# Altium schematic symbol library WR-DSUB_Male.SchLib: 32 symbols
Pins are listed as number, name and electrical type; pins without a type are passive.

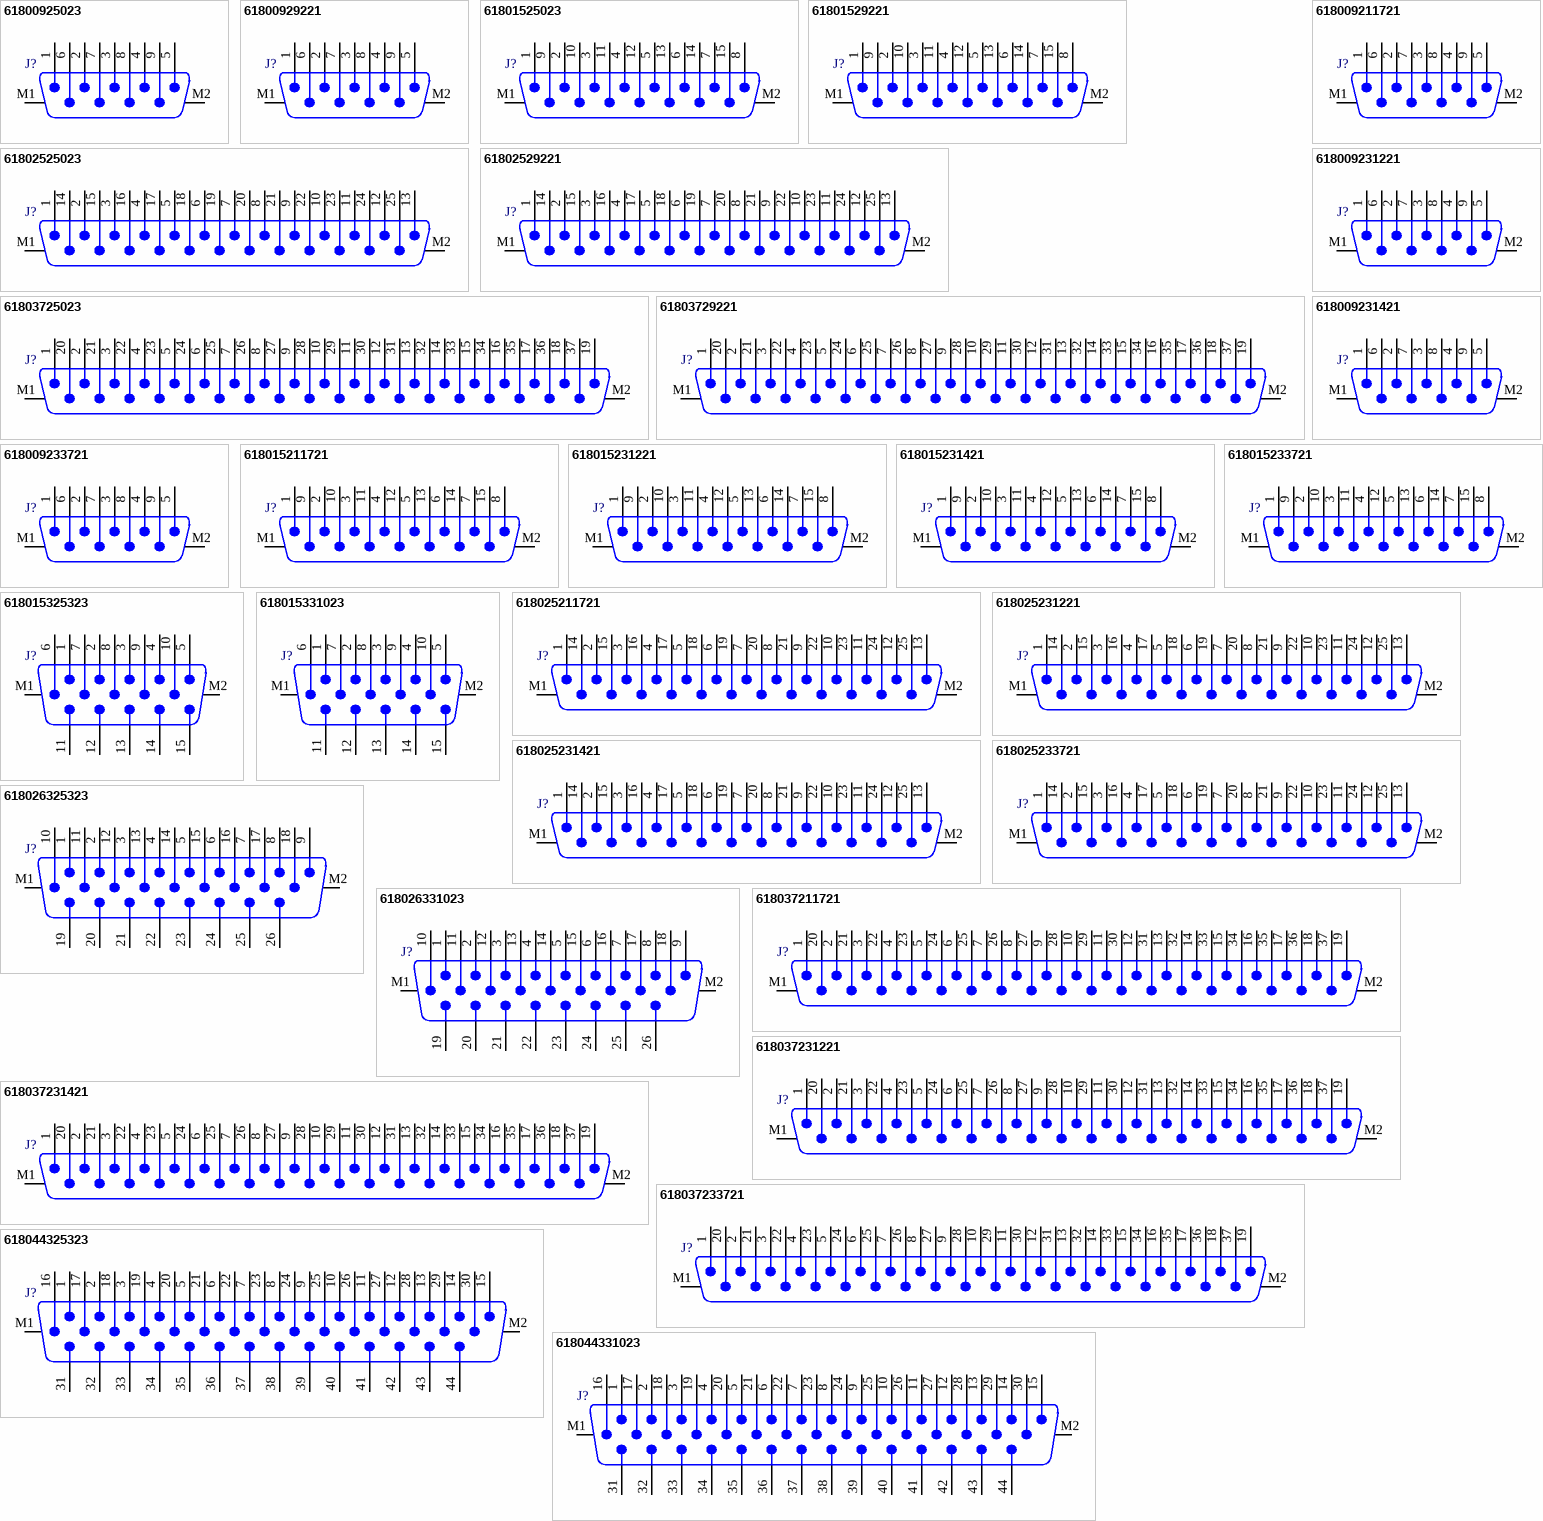
[diagram p0: symbols 61800925023 to 618044331023]

## 61800925023
designator J?
Male PCB Connector WR-DSUB, Vertical, 9 pins; Part Number: 61800925023; Pin Number: 9; Rated Current: 3 A; Contact Resistance: 30 mOhm; Working Voltage: 125 VAC; ComponentLink1Description: Manufacturer; ComponentLink1URL: http://www.we-online.de; ComponentLink2Description: Datasheet; ComponentLink2URL: https://katalog.we-online.de/em/datasheet/6180xx25023.pdf; Published Date: September 2018; Publisher: Wurth Elektronik; Orientation: Vertical; Operating Temperature: -40 to 85 degC; Mounting Technology: THT; Gender: Male; Packaging: Tray
footprint 61800925023
pins: 1, 2, 3, 4, 5, 6, 7, 8, 9, M1, M2

## 61800929221
designator J?
Male PCB Connector with Hex Screw WR-DSUB, Vertical, 9 pins; Part Number: 61800929221; Pin Number: 9; Rated Current: 3 A; Contact Resistance: 30 mOhm; Working Voltage: 125 VAC; ComponentLink1Description: Manufacturer; ComponentLink1URL: http://www.we-online.de; ComponentLink2Description: Datasheet; ComponentLink2URL: https://katalog.we-online.de/em/datasheet/6180xx29221.pdf; Published Date: September 2018; Publisher: Wurth Elektronik; Orientation: Vertical; Operating Temperature: -40 to 85 degC; Mounting Technology: THT; Gender: Male; Packaging: Tray
footprint 61800929221
pins: 1, 2, 3, 4, 5, 6, 7, 8, 9, M1, M2

## 61801525023
designator J?
Male PCB Connector WR-DSUB, Vertical, 15 pins; Part Number: 61801525023; Pin Number: 15; Rated Current: 3 A; Contact Resistance: 30 mOhm; Working Voltage: 125 VAC; ComponentLink1Description: Manufacturer; ComponentLink1URL: http://www.we-online.de; ComponentLink2Description: Datasheet; ComponentLink2URL: https://katalog.we-online.de/em/datasheet/6180xx25023.pdf; Published Date: September 2018; Publisher: Wurth Elektronik; Orientation: Vertical; Operating Temperature: -40 to 85 degC; Mounting Technology: THT; Gender: Male; Packaging: Tray
footprint 61801525023
pins: 1, 2, 3, 4, 5, 6, 7, 8, 9, 10, 11, 12, 13, 14, 15, M1, M2

## 61801529221
designator J?
Male PCB Connector with Hex Screw WR-DSUB, Vertical, 15 pins; Part Number: 61801529221; Pin Number: 15; Rated Current: 3 A; Contact Resistance: 30 mOhm; Working Voltage: 125 VAC; ComponentLink1Description: Manufacturer; ComponentLink1URL: http://www.we-online.de; ComponentLink2Description: Datasheet; ComponentLink2URL: https://katalog.we-online.de/em/datasheet/6180xx29221.pdf; Published Date: September 2018; Publisher: Wurth Elektronik; Orientation: Vertical; Operating Temperature: -40 to 85 degC; Mounting Technology: THT; Gender: Male; Packaging: Tray
footprint 61801529221
pins: 1, 2, 3, 4, 5, 6, 7, 8, 9, 10, 11, 12, 13, 14, 15, M1, M2

## 61802525023
designator J?
Male PCB Connector WR-DSUB, Vertical, 25 pins; Part Number: 61802525023; Pin Number: 25; Rated Current: 3 A; Contact Resistance: 30 mOhm; Working Voltage: 125 VAC; ComponentLink1Description: Manufacturer; ComponentLink1URL: http://www.we-online.de; ComponentLink2Description: Datasheet; ComponentLink2URL: https://katalog.we-online.de/em/datasheet/6180xx25023.pdf; Published Date: September 2018; Publisher: Wurth Elektronik; Orientation: Vertical; Operating Temperature: -40 to 85 degC; Mounting Technology: THT; Gender: Male; Packaging: Tray
footprint 61802525023
pins: 1, 2, 3, 4, 5, 6, 7, 8, 9, 10, 11, 12, 13, 14, 15, 16, 17, 18, 19, 20, 21, 22, 23, 24, 25, M1, M2

## 61802529221
designator J?
Male PCB Connector with Hex Screw WR-DSUB, Vertical, 25 pins; Part Number: 61802529221; Pin Number: 25; Rated Current: 3 A; Contact Resistance: 30 mOhm; Working Voltage: 125 VAC; ComponentLink1Description: Manufacturer; ComponentLink1URL: http://www.we-online.de; ComponentLink2Description: Datasheet; ComponentLink2URL: https://katalog.we-online.de/em/datasheet/6180xx29221.pdf; Published Date: September 2018; Publisher: Wurth Elektronik; Orientation: Vertical; Operating Temperature: -40 to 85 degC; Mounting Technology: THT; Gender: Male; Packaging: Tray
footprint 61802529221
pins: 1, 2, 3, 4, 5, 6, 7, 8, 9, 10, 11, 12, 13, 14, 15, 16, 17, 18, 19, 20, 21, 22, 23, 24, 25, M1, M2

## 61803725023
designator J?
Male PCB Connector WR-DSUB, Vertical, 37 pins; Part Number: 61803725023; Pin Number: 37; Rated Current: 3 A; Contact Resistance: 30 mOhm; Working Voltage: 125 VAC; ComponentLink1Description: Manufacturer; ComponentLink1URL: http://www.we-online.de; ComponentLink2Description: Datasheet; ComponentLink2URL: https://katalog.we-online.de/em/datasheet/6180xx25023.pdf; Published Date: September 2018; Publisher: Wurth Elektronik; Orientation: Vertical; Operating Temperature: -40 to 85 degC; Mounting Technology: THT; Gender: Male; Packaging: Tray
footprint 61803725023
pins: 1, 2, 3, 4, 5, 6, 7, 8, 9, 10, 11, 12, 13, 14, 15, 16, 17, 18, 19, 20, 21, 22, 23, 24, 25, 26, 27, 28, 29, 30, 31, 32, 33, 34, 35, 36, 37, M1, M2

## 61803729221
designator J?
Male PCB Connector with Hex Screw WR-DSUB, Vertical, 37 pins; Part Number: 61803729221; Pin Number: 37; Rated Current: 3 A; Contact Resistance: 30 mOhm; Working Voltage: 125 VAC; ComponentLink1Description: Manufacturer; ComponentLink1URL: http://www.we-online.de; ComponentLink2Description: Datasheet; ComponentLink2URL: https://katalog.we-online.de/em/datasheet/6180xx29221.pdf; Published Date: September 2018; Publisher: Wurth Elektronik; Orientation: Vertical; Operating Temperature: -40 to 85 degC; Mounting Technology: THT; Gender: Male; Packaging: Tray
footprint 61803729221
pins: 1, 2, 3, 4, 5, 6, 7, 8, 9, 10, 11, 12, 13, 14, 15, 16, 17, 18, 19, 20, 21, 22, 23, 24, 25, 26, 27, 28, 29, 30, 31, 32, 33, 34, 35, 36, 37, M1, M2

## 618009211721
designator J?
Male PCB Connector without Hex Screw WR-DSUB, 8.08 mm, Angled, 9 pins; Part Number: 618009211721; Pin Number: 9; Rated Current: 3 A; Contact Resistance: 30 mOhm; Working Voltage: 125 VAC; ComponentLink1Description: Manufacturer; ComponentLink1URL: http://www.we-online.de; ComponentLink2Description: Datasheet; ComponentLink2URL: https://katalog.we-online.de/em/datasheet/6180xx211721.pdf; Published Date: September 2018; Publisher: Wurth Elektronik; Orientation: Angled; Operating Temperature: -40 to 85 degC; Mounting Technology: THT; Gender: Male; Packaging: Tray
footprint 618009211721
pins: 1, 2, 3, 4, 5, 6, 7, 8, 9, M1, M2

## 618009231221
designator J?
Male PCB Connector with Hex Screw WR-DSUB, 8.08 mm, Angled, 9 pins; Part Number: 618009231221; Pin Number: 9; Rated Current: 3 A; Contact Resistance: 30 mOhm; Working Voltage: 125 VAC; ComponentLink1Description: Manufacturer; ComponentLink1URL: http://www.we-online.de; ComponentLink2Description: Datasheet; ComponentLink2URL: https://katalog.we-online.de/em/datasheet/6180xx231221.pdf; Published Date: September 2018; Publisher: Wurth Elektronik; Orientation: Angled; Operating Temperature: -40 to 85 degC; Mounting Technology: THT; Gender: Male; Packaging: Tray
footprint 618009231221
pins: 1, 2, 3, 4, 5, 6, 7, 8, 9, M1, M2

## 618009231421
designator J?
Male PCB Connector with Hex Screw WR-DSUB, 10.30 mm, Angled, 9 pins; Part Number: 618009231421; Pin Number: 9; Rated Current: 3 A; Contact Resistance: 30 mOhm; Working Voltage: 125 VAC; ComponentLink1Description: Manufacturer; ComponentLink1URL: http://www.we-online.de; ComponentLink2Description: Datasheet; ComponentLink2URL: https://katalog.we-online.de/em/datasheet/6180xx231421.pdf; Published Date: September 2018; Publisher: Wurth Elektronik; Orientation: Angled; Operating Temperature: -40 to 85 degC; Mounting Technology: THT; Gender: Male; Packaging: Tray
footprint 618009231421
pins: 1, 2, 3, 4, 5, 6, 7, 8, 9, M1, M2

## 618009233721
designator J?
Male PCB Connector without Hex Screw WR-DSUB, 10.30 mm, Angled, 9 pins; Part Number: 618009233721; Pin Number: 9; Rated Current: 3 A; Contact Resistance: 30 mOhm; Working Voltage: 125 VAC; ComponentLink1Description: Manufacturer; ComponentLink1URL: http://www.we-online.de; ComponentLink2Description: Datasheet; ComponentLink2URL: https://katalog.we-online.de/em/datasheet/6180xx233721.pdf; Published Date: September 2018; Publisher: Wurth Elektronik; Orientation: Angled; Operating Temperature: -40 to 85 degC; Mounting Technology: THT; Gender: Male; Packaging: Tray
footprint 618009233721
pins: 1, 2, 3, 4, 5, 6, 7, 8, 9, M1, M2

## 618015211721
designator J?
Male PCB Connector without Hex Screw WR-DSUB, 8.08 mm, Angled, 15 pins; Part Number: 618015211721; Pin Number: 15; Rated Current: 3 A; Contact Resistance: 30 mOhm; Working Voltage: 125 VAC; ComponentLink1Description: Manufacturer; ComponentLink1URL: http://www.we-online.de; ComponentLink2Description: Datasheet; ComponentLink2URL: https://katalog.we-online.de/em/datasheet/6180xx211721.pdf; Published Date: September 2018; Publisher: Wurth Elektronik; Orientation: Angled; Operating Temperature: -40 to 85 degC; Mounting Technology: THT; Gender: Male; Packaging: Tray
footprint 618015211721
pins: 1, 2, 3, 4, 5, 6, 7, 8, 9, 10, 11, 12, 13, 14, 15, M1, M2

## 618015231221
designator J?
Male PCB Connector with Hex Screw WR-DSUB, 8.08 mm, Angled, 15 pins; Part Number: 618015231221; Pin Number: 15; Rated Current: 3 A; Contact Resistance: 30 mOhm; Working Voltage: 125 VAC; ComponentLink1Description: Manufacturer; ComponentLink1URL: http://www.we-online.de; ComponentLink2Description: Datasheet; ComponentLink2URL: https://katalog.we-online.de/em/datasheet/6180xx231221.pdf; Published Date: September 2018; Publisher: Wurth Elektronik; Orientation: Angled; Operating Temperature: -40 to 85 degC; Mounting Technology: THT; Gender: Male; Packaging: Tray
footprint 618015231221
pins: 1, 2, 3, 4, 5, 6, 7, 8, 9, 10, 11, 12, 13, 14, 15, M1, M2

## 618015231421
designator J?
Male PCB Connector with Hex Screw WR-DSUB, 10.30 mm, Angled, 15 pins; Part Number: 618015231421; Pin Number: 15; Rated Current: 3 A; Contact Resistance: 30 mOhm; Working Voltage: 125 VAC; ComponentLink1Description: Manufacturer; ComponentLink1URL: http://www.we-online.de; ComponentLink2Description: Datasheet; ComponentLink2URL: https://katalog.we-online.de/em/datasheet/6180xx231421.pdf; Published Date: September 2018; Publisher: Wurth Elektronik; Orientation: Angled; Operating Temperature: -40 to 85 degC; Mounting Technology: THT; Gender: Male; Packaging: Tray
footprint 618015231421
pins: 1, 2, 3, 4, 5, 6, 7, 8, 9, 10, 11, 12, 13, 14, 15, M1, M2

## 618015233721
designator J?
Male PCB Connector without Hex Screw WR-DSUB, 10.30 mm, Angled, 15 pins; Part Number: 618015233721; Pin Number: 15; Rated Current: 3 A; Contact Resistance: 30 mOhm; Working Voltage: 125 VAC; ComponentLink1Description: Manufacturer; ComponentLink1URL: http://www.we-online.de; ComponentLink2Description: Datasheet; ComponentLink2URL: https://katalog.we-online.de/em/datasheet/6180xx233721.pdf; Published Date: September 2018; Publisher: Wurth Elektronik; Orientation: Angled; Operating Temperature: -40 to 85 degC; Mounting Technology: THT; Gender: Male; Packaging: Tray
footprint 618015233721
pins: 1, 2, 3, 4, 5, 6, 7, 8, 9, 10, 11, 12, 13, 14, 15, M1, M2

## 618015325323
designator J?
Male High Density PCB Connector without Hex Screw WR-DSUB, Angled, 15 pins; Part Number: 618015325323; Pin Number: 15; Rated Current: 3 A; Contact Resistance: 30 mOhm; Working Voltage: 60 VAC; ComponentLink1Description: Manufacturer; ComponentLink1URL: http://www.we-online.de; ComponentLink2Description: Datasheet; ComponentLink2URL: https://katalog.we-online.de/em/datasheet/6180xx325323.pdf; Published Date: September 2018; Publisher: Wurth Elektronik; Orientation: Angled; Operating Temperature: -40 to 85 degC; Mounting Technology: THT; Gender: Male; Packaging: Tray
footprint 618015325323
pins: 1, 2, 3, 4, 5, 6, 7, 8, 9, 10, 11, 12, 13, 14, 15, M1, M2

## 618015331023
designator J?
Male High Density PCB Connector with Hex Screw WR-DSUB, Angled, 15 pins; Part Number: 618015331023; Pin Number: 15; Rated Current: 3 A; Contact Resistance: 30 mOhm; Working Voltage: 60 VAC; ComponentLink1Description: Manufacturer; ComponentLink1URL: http://www.we-online.de; ComponentLink2Description: Datasheet; ComponentLink2URL: https://katalog.we-online.de/em/datasheet/6180xx331023.pdf; Published Date: September 2018; Publisher: Wurth Elektronik; Orientation: Angled; Operating Temperature: -40 to 85 degC; Mounting Technology: THT; Gender: Male; Packaging: Tray
footprint 618015331023
pins: 1, 2, 3, 4, 5, 6, 7, 8, 9, 10, 11, 12, 13, 14, 15, M1, M2

## 618025211721
designator J?
Male PCB Connector without Hex Screw WR-DSUB, 8.08 mm, Angled, 25 pins; Part Number: 618025211721; Pin Number: 25; Rated Current: 3 A; Contact Resistance: 30 mOhm; Working Voltage: 125 VAC; ComponentLink1Description: Manufacturer; ComponentLink1URL: http://www.we-online.de; ComponentLink2Description: Datasheet; ComponentLink2URL: https://katalog.we-online.de/em/datasheet/6180xx211721.pdf; Published Date: September 2018; Publisher: Wurth Elektronik; Orientation: Angled; Operating Temperature: -40 to 85 degC; Mounting Technology: THT; Gender: Male; Packaging: Tray
footprint 618025211721
pins: 1, 2, 3, 4, 5, 6, 7, 8, 9, 10, 11, 12, 13, 14, 15, 16, 17, 18, 19, 20, 21, 22, 23, 24, 25, M1, M2

## 618025231221
designator J?
Male PCB Connector with Hex Screw WR-DSUB, 8.08 mm, Angled, 25 pins; Part Number: 618025231221; Pin Number: 25; Rated Current: 3 A; Contact Resistance: 30 mOhm; Working Voltage: 125 VAC; ComponentLink1Description: Manufacturer; ComponentLink1URL: http://www.we-online.de; ComponentLink2Description: Datasheet; ComponentLink2URL: https://katalog.we-online.de/em/datasheet/6180xx231221.pdf; Published Date: September 2018; Publisher: Wurth Elektronik; Orientation: Angled; Operating Temperature: -40 to 85 degC; Mounting Technology: THT; Gender: Male; Packaging: Tray
footprint 618025231221
pins: 1, 2, 3, 4, 5, 6, 7, 8, 9, 10, 11, 12, 13, 14, 15, 16, 17, 18, 19, 20, 21, 22, 23, 24, 25, M1, M2

## 618025231421
designator J?
Male PCB Connector with Hex Screw WR-DSUB, 10.30 mm, Angled, 25 pins; Part Number: 618025231421; Pin Number: 25; Rated Current: 3 A; Contact Resistance: 30 mOhm; Working Voltage: 125 VAC; ComponentLink1Description: Manufacturer; ComponentLink1URL: http://www.we-online.de; ComponentLink2Description: Datasheet; ComponentLink2URL: https://katalog.we-online.de/em/datasheet/6180xx231421.pdf; Published Date: September 2018; Publisher: Wurth Elektronik; Orientation: Angled; Operating Temperature: -40 to 85 degC; Mounting Technology: THT; Gender: Male; Packaging: Tray
footprint 618025231421
pins: 1, 2, 3, 4, 5, 6, 7, 8, 9, 10, 11, 12, 13, 14, 15, 16, 17, 18, 19, 20, 21, 22, 23, 24, 25, M1, M2

## 618025233721
designator J?
Male PCB Connector without Hex Screw WR-DSUB, 10.30 mm, Angled, 25 pins; Part Number: 618025233721; Pin Number: 25; Rated Current: 3 A; Contact Resistance: 30 mOhm; Working Voltage: 125 VAC; ComponentLink1Description: Manufacturer; ComponentLink1URL: http://www.we-online.de; ComponentLink2Description: Datasheet; ComponentLink2URL: https://katalog.we-online.de/em/datasheet/6180xx233721.pdf; Published Date: September 2018; Publisher: Wurth Elektronik; Orientation: Angled; Operating Temperature: -40 to 85 degC; Mounting Technology: THT; Gender: Male; Packaging: Tray
footprint 618025233721
pins: 1, 2, 3, 4, 5, 6, 7, 8, 9, 10, 11, 12, 13, 14, 15, 16, 17, 18, 19, 20, 21, 22, 23, 24, 25, M1, M2

## 618026325323
designator J?
Male High Density PCB Connector without Hex Screw WR-DSUB, Angled, 26 pins; Part Number: 618026325323; Pin Number: 26; Rated Current: 3 A; Contact Resistance: 30 mOhm; Working Voltage: 60 VAC; ComponentLink1Description: Manufacturer; ComponentLink1URL: http://www.we-online.de; ComponentLink2Description: Datasheet; ComponentLink2URL: https://katalog.we-online.de/em/datasheet/6180xx325323.pdf; Published Date: September 2018; Publisher: Wurth Elektronik; Orientation: Angled; Operating Temperature: -40 to 85 degC; Mounting Technology: THT; Gender: Male; Packaging: Tray
footprint 618026325323
pins: 1, 2, 3, 4, 5, 6, 7, 8, 9, 10, 11, 12, 13, 14, 15, 16, 17, 18, 19, 20, 21, 22, 23, 24, 25, 26, M1, M2

## 618026331023
designator J?
Male High Density PCB Connector with Hex Screw WR-DSUB, Angled, 26 pins; Part Number: 618026331023; Pin Number: 26; Rated Current: 3 A; Contact Resistance: 30 mOhm; Working Voltage: 60 VAC; ComponentLink1Description: Manufacturer; ComponentLink1URL: http://www.we-online.de; ComponentLink2Description: Datasheet; ComponentLink2URL: https://katalog.we-online.de/em/datasheet/6180xx331023.pdf; Published Date: September 2018; Publisher: Wurth Elektronik; Orientation: Angled; Operating Temperature: -40 to 85 degC; Mounting Technology: THT; Gender: Male; Packaging: Tray
footprint 618026331023
pins: 1, 2, 3, 4, 5, 6, 7, 8, 9, 10, 11, 12, 13, 14, 15, 16, 17, 18, 19, 20, 21, 22, 23, 24, 25, 26, M1, M2

## 618037211721
designator J?
Male PCB Connector without Hex Screw WR-DSUB, 8.08 mm, Angled, 37 pins; Part Number: 618037211721; Pin Number: 37; Rated Current: 3 A; Contact Resistance: 30 mOhm; Working Voltage: 125 VAC; ComponentLink1Description: Manufacturer; ComponentLink1URL: http://www.we-online.de; ComponentLink2Description: Datasheet; ComponentLink2URL: https://katalog.we-online.de/em/datasheet/6180xx211721.pdf; Published Date: September 2018; Publisher: Wurth Elektronik; Orientation: Angled; Operating Temperature: -40 to 85 degC; Mounting Technology: THT; Gender: Male; Packaging: Tray
footprint 618037211721
pins: 1, 2, 3, 4, 5, 6, 7, 8, 9, 10, 11, 12, 13, 14, 15, 16, 17, 18, 19, 20, 21, 22, 23, 24, 25, 26, 27, 28, 29, 30, 31, 32, 33, 34, 35, 36, 37, M1, M2

## 618037231221
designator J?
Male PCB Connector with Hex Screw WR-DSUB, 8.08 mm, Angled, 37 pins; Part Number: 618037231221; Pin Number: 37; Rated Current: 3 A; Contact Resistance: 30 mOhm; Working Voltage: 125 VAC; ComponentLink1Description: Manufacturer; ComponentLink1URL: http://www.we-online.de; ComponentLink2Description: Datasheet; ComponentLink2URL: https://katalog.we-online.de/em/datasheet/6180xx231221.pdf; Published Date: September 2018; Publisher: Wurth Elektronik; Orientation: Angled; Operating Temperature: -40 to 85 degC; Mounting Technology: THT; Gender: Male; Packaging: Tray
footprint 618037231221
pins: 1, 2, 3, 4, 5, 6, 7, 8, 9, 10, 11, 12, 13, 14, 15, 16, 17, 18, 19, 20, 21, 22, 23, 24, 25, 26, 27, 28, 29, 30, 31, 32, 33, 34, 35, 36, 37, M1, M2

## 618037231421
designator J?
Male PCB Connector with Hex Screw WR-DSUB, 10.30 mm, Angled, 37 pins; Part Number: 618037231421; Pin Number: 37; Rated Current: 3 A; Contact Resistance: 30 mOhm; Working Voltage: 125 VAC; ComponentLink1Description: Manufacturer; ComponentLink1URL: http://www.we-online.de; ComponentLink2Description: Datasheet; ComponentLink2URL: https://katalog.we-online.de/em/datasheet/6180xx231421.pdf; Published Date: September 2018; Publisher: Wurth Elektronik; Orientation: Angled; Operating Temperature: -40 to 85 degC; Mounting Technology: THT; Gender: Male; Packaging: Tray
footprint 618037231421
pins: 1, 2, 3, 4, 5, 6, 7, 8, 9, 10, 11, 12, 13, 14, 15, 16, 17, 18, 19, 20, 21, 22, 23, 24, 25, 26, 27, 28, 29, 30, 31, 32, 33, 34, 35, 36, 37, M1, M2

## 618037233721
designator J?
Male PCB Connector without Hex Screw WR-DSUB, 10.30 mm, Angled, 37 pins; Part Number: 618037233721; Pin Number: 37; Rated Current: 3 A; Contact Resistance: 30 mOhm; Working Voltage: 125 VAC; ComponentLink1Description: Manufacturer; ComponentLink1URL: http://www.we-online.de; ComponentLink2Description: Datasheet; ComponentLink2URL: https://katalog.we-online.de/em/datasheet/6180xx233721.pdf; Published Date: September 2018; Publisher: Wurth Elektronik; Orientation: Angled; Operating Temperature: -40 to 85 degC; Mounting Technology: THT; Gender: Male; Packaging: Tray
footprint 618037233721
pins: 1, 2, 3, 4, 5, 6, 7, 8, 9, 10, 11, 12, 13, 14, 15, 16, 17, 18, 19, 20, 21, 22, 23, 24, 25, 26, 27, 28, 29, 30, 31, 32, 33, 34, 35, 36, 37, M1, M2

## 618044325323
designator J?
Male High Density PCB Connector without Hex Screw WR-DSUB, Angled, 44 pins; Part Number: 618044325323; Pin Number: 44; Rated Current: 3 A; Contact Resistance: 30 mOhm; Working Voltage: 60 VAC; ComponentLink1Description: Manufacturer; ComponentLink1URL: http://www.we-online.de; ComponentLink2Description: Datasheet; ComponentLink2URL: https://katalog.we-online.de/em/datasheet/6180xx325323.pdf; Published Date: September 2018; Publisher: Wurth Elektronik; Orientation: Angled; Operating Temperature: -40 to 85 degC; Mounting Technology: THT; Gender: Male; Packaging: Tray
footprint 618044325323
pins: 1, 2, 3, 4, 5, 6, 7, 8, 9, 10, 11, 12, 13, 14, 15, 16, 17, 18, 19, 20, 21, 22, 23, 24, 25, 26, 27, 28, 29, 30, 31, 32, 33, 34, 35, 36, 37, 38, 39, 40, 41, 42, 43, 44, M1, M2

## 618044331023
designator J?
Male High Density PCB Connector with Hex Screw WR-DSUB, Angled, 44 pins; Part Number: 618044331023; Pin Number: 44; Rated Current: 3 A; Contact Resistance: 30 mOhm; Working Voltage: 60 VAC; ComponentLink1Description: Manufacturer; ComponentLink1URL: http://www.we-online.de; ComponentLink2Description: Datasheet; ComponentLink2URL: https://katalog.we-online.de/em/datasheet/6180xx331023.pdf; Published Date: September 2018; Publisher: Wurth Elektronik; Orientation: Angled; Operating Temperature: -40 to 85 degC; Mounting Technology: THT; Gender: Male; Packaging: Tray
footprint 618044331023
pins: 1, 2, 3, 4, 5, 6, 7, 8, 9, 10, 11, 12, 13, 14, 15, 16, 17, 18, 19, 20, 21, 22, 23, 24, 25, 26, 27, 28, 29, 30, 31, 32, 33, 34, 35, 36, 37, 38, 39, 40, 41, 42, 43, 44, M1, M2

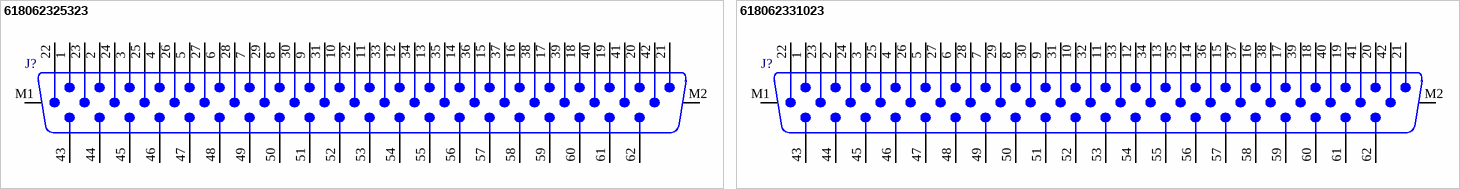
[diagram p1: symbols 618062325323 to 618062331023]

## 618062325323
designator J?
Male High Density PCB Connector without Hex Screw WR-DSUB, Angled, 62 pins; Part Number: 618062325323; Pin Number: 62; Rated Current: 3 A; Contact Resistance: 30 mOhm; Working Voltage: 60 VAC; ComponentLink1Description: Manufacturer; ComponentLink1URL: http://www.we-online.de; ComponentLink2Description: Datasheet; ComponentLink2URL: https://katalog.we-online.de/em/datasheet/6180xx325323.pdf; Published Date: July 2020; Publisher: Wurth Elektronik; Orientation: Angled; Operating Temperature: -40 to 85 degC; Mounting Technology: THT; Gender: Male; Packaging: Tray
footprint 618062325323
pins: 1, 2, 3, 4, 5, 6, 7, 8, 9, 10, 11, 12, 13, 14, 15, 16, 17, 18, 19, 20, 21, 22, 23, 24, 25, 26, 27, 28, 29, 30, 31, 32, 33, 34, 35, 36, 37, 38, 39, 40, 41, 42, 43, 44, 45, 46, 47, 48, 49, 50, 51, 52, 53, 54, 55, 56, 57, 58, 59, 60, 61, 62, M1, M2

## 618062331023
designator J?
Male High Density PCB Connector with Hex Screw WR-DSUB, Angled, 62 pins; Part Number: 618062331023; Pin Number: 62; Rated Current: 3 A; Contact Resistance: 30 mOhm; Working Voltage: 60 VAC; ComponentLink1Description: Manufacturer; ComponentLink1URL: http://www.we-online.de; ComponentLink2Description: Datasheet; ComponentLink2URL: https://katalog.we-online.de/em/datasheet/6180xx331023.pdf; Published Date: September 2018; Publisher: Wurth Elektronik; Orientation: Angled; Operating Temperature: -40 to 85 degC; Mounting Technology: THT; Gender: Male; Packaging: Tray
footprint 618062331023
pins: 1, 2, 3, 4, 5, 6, 7, 8, 9, 10, 11, 12, 13, 14, 15, 16, 17, 18, 19, 20, 21, 22, 23, 24, 25, 26, 27, 28, 29, 30, 31, 32, 33, 34, 35, 36, 37, 38, 39, 40, 41, 42, 43, 44, 45, 46, 47, 48, 49, 50, 51, 52, 53, 54, 55, 56, 57, 58, 59, 60, 61, 62, M1, M2